# Altium schematic symbol library BLE UART.SchLib: 2 symbols
Pins are listed as number, name and electrical type; pins without a type are passive.

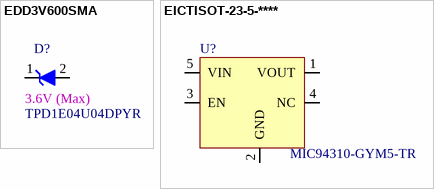
[diagram p0: symbols EDD3V600SMA to EICTISOT-23-5-****]

## EDD3V600SMA
designator D?, comment value TPD1E04U04DPYR  1st Auxiliary Field: 3.6V (Max)  (hidden comment: TVS DIODE 3.6V 8.9V 2X1SON)
Manufacturer: Texas Instruments; Internal Part Number: EDD3V600SMA; Vendor Part Number: 296-47224-1-ND; Component Height (mm): 0.45mm; 4th Auxiliary Field: ROHS3 Compliant; Vendor Name: Digi-Key; Temp Co: -40°C ~ 125°C (TA); 3rd Auxiliary Field: *; Part Type: TVS DIODE 3.6V 8.9V 2X1SON; Manufacturer Part Number: TPD1E04U04DPYR; 2nd Auxiliary Field: 8.9V
footprint DFN65P100X45-2N (DFN, 2-Leads, Body 0.60x1.00mm, Pitch 0.65mm, IPC Medium Density)
pins: 1 K, 2 A

## EICTISOT-23-5-****
designator U?, comment value MIC94310-GYM5-TR  (hidden comment: IC REG LINEAR 1.8V 200MA SOT23-5)
Manufacturer: Microchip Technology; Internal Part Number: EICMTSOT-23-5-****; Vendor Part Number: 576-4769-1-ND; 3rd Auxiliary Field: ROHS3 Compliant; Component Height (mm): 1.45mm; Temp Co: -40°C ~ 125°C; Vendor Name: Digi-Key; 1st Auxiliary Field: 3.6V; Manufacturer Part Number: MIC94310-GYM5-TR; Part Type: IC REG LINEAR 1.8V 200MA SOT23-5; 4th Auxiliary Field: *; 2nd Auxiliary Field: 200mA
footprint SOT95P280X145-5N (SC189ZSKTRT, IC REG BUCK 3.3V 1.5A SYNC SOT23)
pins: 1 VOUT, 2 GND, 3 EN, 4 NC, 5 VIN